# Altium schematic symbol library Inverter_LCEE.SchLib: 11 symbols
Pins are listed as number, name and electrical type; pins without a type are passive.

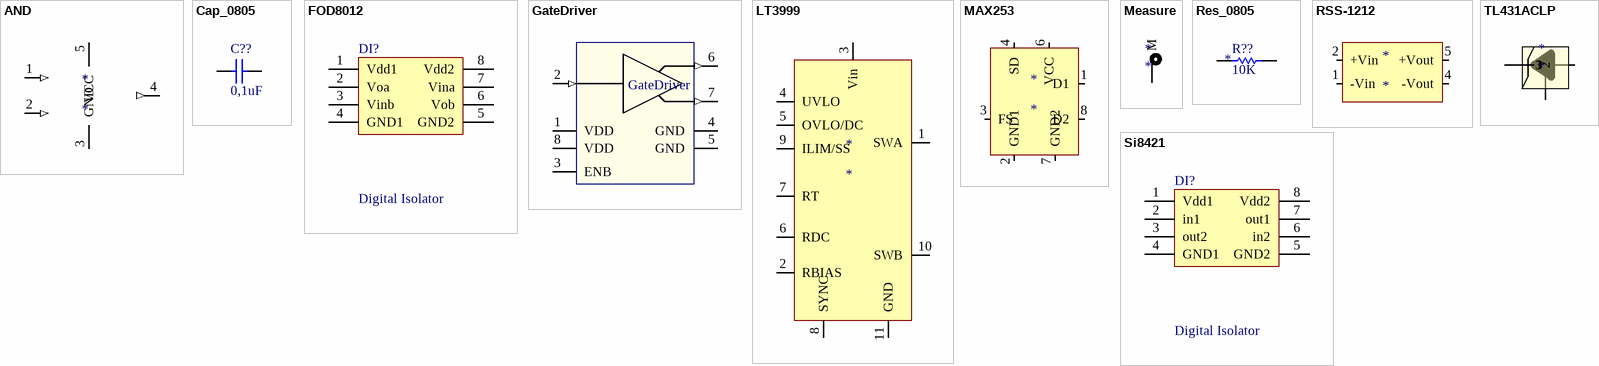
[diagram p0: symbols AND to TL431ACLP]

## AND
designator *
footprint SOT353
pins: 1 OE* (in), 2 IN (in), 3 GND (power), 4 OUT (out), 5 VCC (power)

## Cap_0805
designator C??  value 0,1uF  (hidden comment: Cap_0805)
Capacitor; Published: 8-Jun-2000; LatestRevisionDate: 17-Jul-2002; LatestRevisionNote: Re-released for DXP Platform.; PackageReference: RAD-0.3; Publisher: Altium Limited
simulation model CAP (Capacitor)
signal-integrity model Cap
footprint 0805_W
pins: 1, 2

## FOD8012
designator DI?, comment Digital Isolator
Two Channel, High Speed Digital Isolators
pins: 1 Vdd1, 2 Voa, 3 Vinb, 4 GND1, 5 GND2, 6 Vob, 7 Vina, 8 Vdd2

## GateDriver
designator GateDriver  (value not drawn)
Value: MCP14A0601
footprint 8SOIC - HEAT (SI841)
pins: 1 VDD, 2 (in), 3 ENB, 4 GND, 5 GND, 6 (out), 7 (out), 8 VDD

## LT3999
designator *
pins: 1 SWA, 2 RBIAS, 3 Vin, 4 UVLO, 5 OVLO/DC, 6 RDC, 7 RT, 8 SYNC, 9 ILIM/SS, 10 SWB, 11 GND

## MAX253
designator *
pins: 1 D1, 2 GND1, 3 FS, 4 SD, 6 VCC, 7 GND2, 8 D2

## Measure
designator *
footprint Measure
pins: 0 M

## Res_0805
designator R??  value 10K
Resistor; Manufacturer: Generic Components; Class: Passive; Published: 08/06/2000; Publisher: Altium Hobart Technology Centre; SubClass: Resistor
footprint AXIAL-0.3
simulation model RESISTOR (Resistor)
signal-integrity model Res1
pins: 1, 2

## RSS-1212
designator *
pins: 1 -Vin, 2 +Vin, 4 -Vout, 5 +Vout

## Si8421
designator DI?, comment Digital Isolator
Two Channel, High Speed Digital Isolators
footprint 8SOIC (SI841)
pins: 1 Vdd1, 2 in1, 3 out2, 4 GND1, 5 GND2, 6 in2, 7 out1, 8 Vdd2

## TL431ACLP
designator *
footprint SOT-23-TT3_L (SOT23, 3-Leads, Body 2.9x1.3mm, Pitch 0.95mm, Lead Span 2.4mm, IPC High Density)
pins: Anode 3, Cathode 1, Cathode 2